# Altium schematic symbol library LM1117-3.3.SchLib: 1 symbol
Pins are listed as number, name and electrical type; pins without a type are passive.

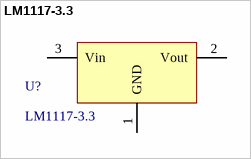
[diagram p0: symbol LM1117-3.3]

## LM1117-3.3
designator U?
5V转3.3V
footprint LM1117-3.3 (稳压器件)
pins: 1 GND, 2 Vout, 3 Vin